# Altium footprint library PCB - SWITCH - TE 2-1825027-0.PcbLib: 1 footprints
Each footprint in its own frame and in the unit in brackets; x right, y up, seen from the top. Pads: shape width x height; smd on the part's side, far side on the other; paste and mask are expansions set on the pad; w line width, h text height; cw(c..) or ccw(c..) is an arc to the next point about the centre after c.
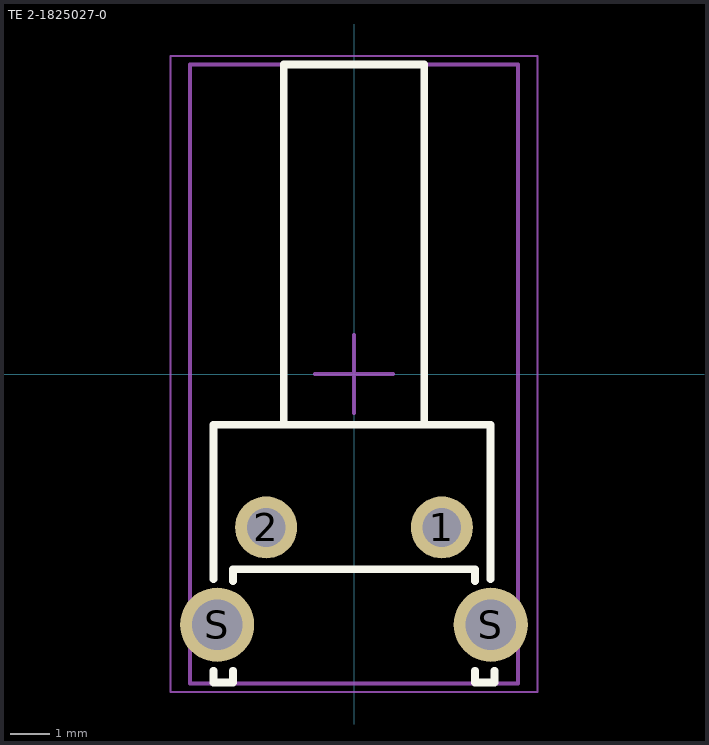
[diagram p0: the footprint, top view; thin cyan lines are the x and y axes]

## TE 2-1825027-0 [mm] "actile Switches, Round Actuator Style, Operating Function NO,Right Angle, Body 15.53x7.11mm, Pitch 2.25mm"
height 7
pads (4):
  round 1.59 hole 0.99: 1(2.25,-3.931) 2(-2.25,-3.931)
  round 1.9 hole 1.3: S(-3.505,-6.421) S(3.505,-6.421)
Top Overlay:
  lines w0.2: -3.6,-7.6 -3.6,-7.9 -3.1,-7.9 -3.1,-7.6 ; -3.6,-5.25 -3.6,-1.3 3.5,-1.3 3.5,-5.25 ; -3.1,-5.3 -3.1,-5 3.1,-5 3.1,-5.3 ; -1.8,-1.3 -1.8,7.931 1.8,7.931 1.8,-1.3 ; 3.1,-7.6 3.1,-7.9 3.6,-7.9 3.6,-7.6
Mechanical 1:
  lines w0.1: -4.204,-7.931 4.204,-7.931 4.204,7.931 -4.204,7.931 -4.204,-7.931
Mechanical 15:
  lines w0.05: -4.7,-8.15 4.7,-8.15 4.7,8.15 -4.7,8.15 -4.7,-8.15
  lines w0.1: -1,0 0,0 ; 0,-1 0,0 ; 0,1 0,0 ; 1,0 0,0
3D body "TE - 2-1825027-0 v2.step": height 7.01, standoff -3.51, extent -4.204,-7.931 4.204,7.931